# EAGLE library part 64801011622 (library Wurth_Elektronik_Electromechanic_Wire_to_Board_Connectors_rev15c)
WR-WTB 1.50mm Male Vertical Shrouded Header, 10 Pins=>Code : Con_WTB_1.50_PCB_THT_64801011622 <http://katalog.we-online.de/media/thumbs2/eican/thb_Con_WTB_1.50_PCB_THT_6480xx11622_pf2.jpg> Details see: http://katalog.we-online.de/en/em/648_0xx_116_22 Created 2014-06-05, Karrer Zheng 2014 (C) Würth Elektronik
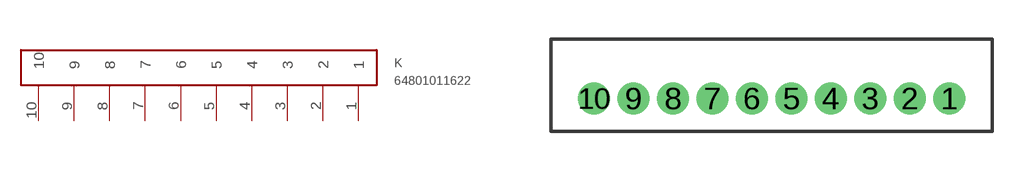
[diagram p76: symbol with the pads of 64801011622; footprint 64801011622]

Designator prefix K

## 64801011622  [64801011622]
1  1
2  2
3  3
4  4
5  5
6  6
7  7
8  8
9  9
10  10

## Footprint 64801011622 (pad centres in mm)
WR-WTB 1.50mm Male Vertical Shrouded Header, 10 Pins
drill 0.7: 1 0.75,0; 2 -0.75,0; 3 -2.25,0; 4 -3.75,0; 5 -5.25,0; 6 -6.75,0; 7 -8.25,0; 8 -9.75,0; 9 -11.25,0; 10 -12.75,0